# Altium footprint library ELKO8.PcbLib: 1 footprints
Each footprint in its own frame and in the unit in brackets; x right, y up, seen from the top. Pads: shape width x height; smd on the part's side, far side on the other; paste and mask are expansions set on the pad; w line width, h text height; cw(c..) or ccw(c..) is an arc to the next point about the centre after c.
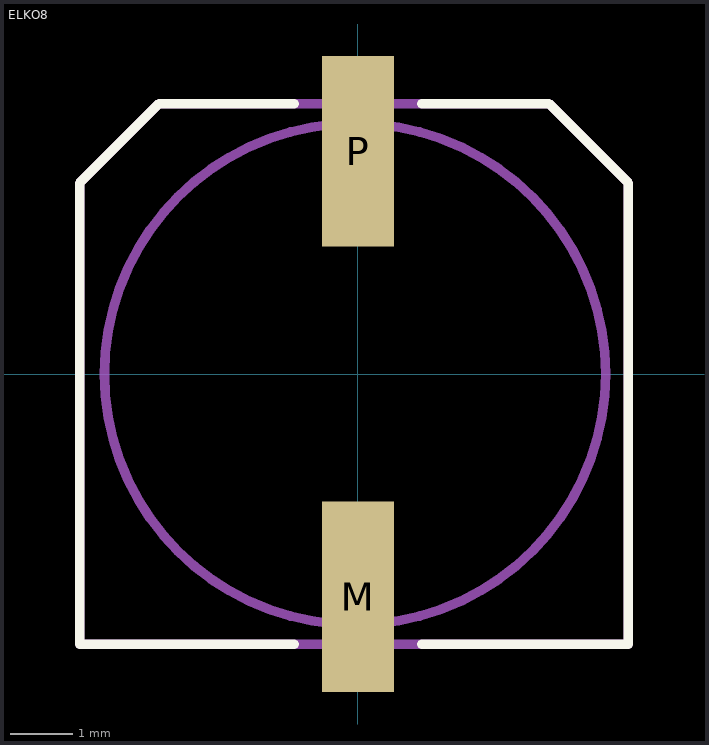
[diagram p0: the footprint, top view; thin cyan lines are the x and y axes]

## ELKO8 [mil]
pads (2):
  rect 45x120 smd: M(0,-140) P(0,140)
Top Overlay:
  lines w6: -40,-170 -175,-170 -175,120 -125,170 -40,170 ; 40,-170 170,-170 170,120 120,170 40,170
Mechanical 13:
  circle w6: c-1.85,0 r157.48
  lines w6: -175,-170 170,-170 170,120 120,170 -125,170 -175,120 -175,-170